# Altium schematic symbol library OperationalAmplifiers.SchLib: 3 symbols
Pins are listed as number, name and electrical type; pins without a type are passive.

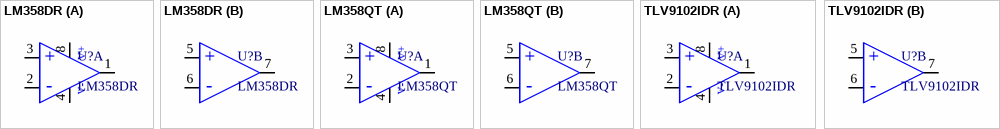
[diagram p0: symbols LM358DR to TLV9102IDR]

## LM358DR
designator U?
IC OPAMP GP 2 CIRCUIT 8SOIC; Grade: None; Package / Case: SOIC-8; Mounted: Yes; helpURL: https://www.digikey.ca/en/products/detail/texas-instruments/LM358DR/276658?s=N4IgTCBcDa4JwDYC0BGADCgLEsSByAIiALoC%2BQA; Supplier 1: Digi-Key; Supplier Part Number 1: 296-1014-2-ND; JLCPCB Part Number: C5423; Supplier Part Number 2: *
footprint SOIC-8 (8-Lead Plastic Small Outline, 0.15in pitch,  LTC DWG # 05-08-1610 Rev G)
part A pins: 1 OUT1, 2 IN1-, 3 IN1+, 4 VS-, 8 VS+
part B pins: 5 IN2+, 6 IN2-, 7 OUT
part A text: V+; +; -; V-
part B text: +; -

## LM358QT
designator U?
IC OPAMP GP 2 CIRCUIT QFN; Grade: None; Mounted: Yes; helpURL: https://www.digikey.ca/en/products/detail/texas-instruments/LM358DR/276658?s=N4IgTCBcDa4JwDYC0BGADCgLEsSByAIiALoC%2BQA; Supplier 1: Digi-Key; Supplier Part Number 1: 497-12007-1-ND
footprint SON_58QT_STM-L
part A pins: 1 OUT1, 2 IN1-, 3 IN1+, 4 VS-, 8 VS+
part B pins: 5 IN2+, 6 IN2-, 7 OUT
part A text: V+; +; -; V-
part B text: +; -

## TLV9102IDR
designator U?
General Purpose Amplifier 2 Circuit Rail-to-Rail 8-SOIC 2.7-16V; Grade: None; Mounted: Yes; Supplier 1: Digi-Key; Supplier Part Number 1: 296-TLV9102IDRCT-ND
footprint SOIC-8 (8-Lead Plastic Small Outline, 0.15in pitch,  LTC DWG # 05-08-1610 Rev G)
part A pins: 1 OUT1, 2 IN1-, 3 IN1+, 4 VS-, 8 VS+
part B pins: 5 IN2+, 6 IN2-, 7 OUT
part A text: V+; +; -; V-
part B text: +; -